# EAGLE library part BQ25570RGRR (library BQ25570RGRR)
Ultra Low Power Harvester Power Management IC with Boost Charger, and Nanopower Buck Converter 20-VQFN
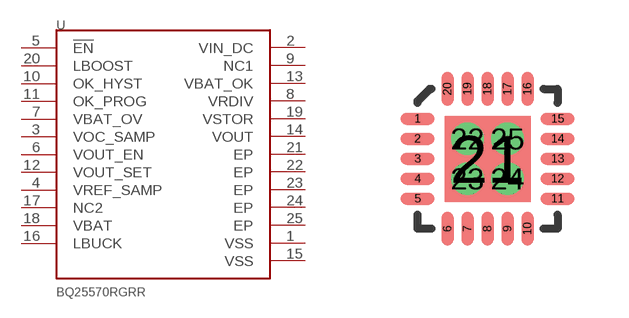
[diagram p0: symbol with the pads of QFN50P350X350X100-21N; footprint QFN50P350X350X100-21N]

Designator prefix U

## BQ25570RGRR (AVAILABILITY: Unavailable; DESCRIPTION: Ultra Low Power Harvester Power Management IC with Boost Charger, and Nanopower Buck Converter 20-VQFN; MF: Texas Instruments; MP: BQ25570RGRR; PACKAGE: VQFN-20 Texas Instruments; PRICE: None)  [QFN50P350X350X100-21N]
1  VSS  pwr
2  VIN_DC  pwr
3  VOC_SAMP  in
4  VREF_SAMP  in
5  !EN  in
6  VOUT_EN  in
7  VBAT_OV  in
8  VRDIV  out
9  NC1  nc
10  OK_HYST  in
11  OK_PROG  in
12  VOUT_SET  in
13  VBAT_OK  out
14  VOUT  out
15  VSS  pwr
16  LBUCK
17  NC2  nc
18  VBAT
19  VSTOR  out
20  LBOOST  in
21  EP  pwr
22  EP  pwr
23  EP  pwr
24  EP  pwr
25  EP  pwr

## Footprint QFN50P350X350X100-21N (pad centres in mm)
smd 0.85 x 0.3: 1 -1.75,1; 2 -1.75,0.5; 3 -1.75,0; 4 -1.75,-0.5; 5 -1.75,-1; 11 1.75,-1; 12 1.75,-0.5; 13 1.75,0; 14 1.75,0.5; 15 1.75,1
smd 0.3 x 0.85: 6 -1,-1.75; 7 -0.5,-1.75; 8 0,-1.75; 9 0.5,-1.75; 10 1,-1.75; 16 1,1.75; 17 0.5,1.75; 18 0,1.75; 19 -0.5,1.75; 20 -1,1.75
smd 2.15 x 2.15: 21 0,0
drill 0.3 pad 0.45: 22 -0.5,0.5; 23 -0.5,-0.5; 24 0.5,-0.5; 25 0.5,0.5